# Altium schematic symbol library Osciladores.SchLib: 1 symbol
Pins are listed as number, name and electrical type; pins without a type are passive.

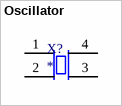
[diagram p0: symbol Oscillator]

## Oscillator
designator X?
datasheet: https://www.farnell.com/datasheets/1853024.pdf
footprint 3.2x2.5
pins: 1 Standby operation, 2 GND, 3 OUT, 4 +Vs